# Altium footprint library ELSMTD8h10.5.PcbLib: 1 footprints
Each footprint in its own frame and in the unit in brackets; x right, y up, seen from the top. Pads: shape width x height; smd on the part's side, far side on the other; paste and mask are expansions set on the pad; w line width, h text height; cw(c..) or ccw(c..) is an arc to the next point about the centre after c.
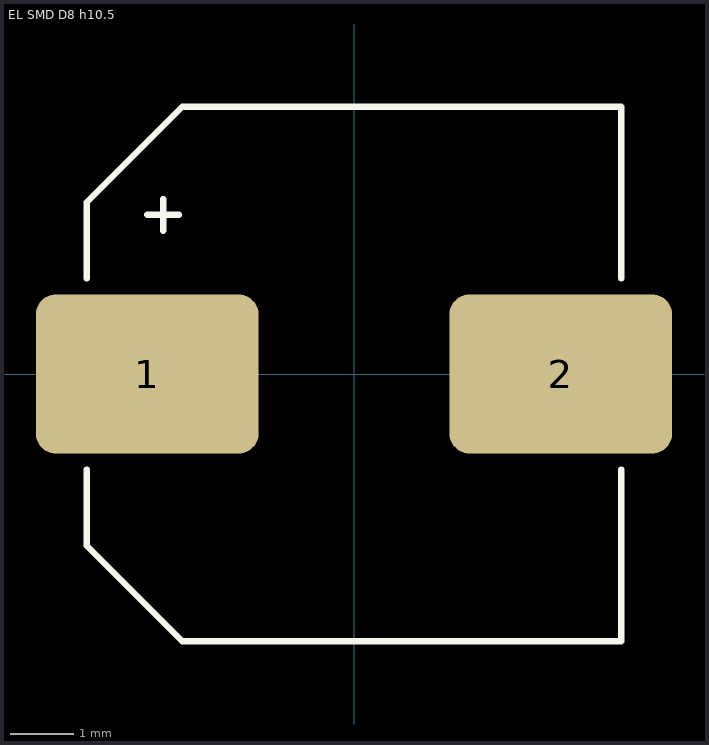
[diagram p0: the footprint, top view; thin cyan lines are the x and y axes]

## EL SMD D8 h10.5 [mm]
height 10.5
pads (2):
  rrect25% 3.5x2.5 smd mask+0.102: 1(-3.25,0) 2(3.25,0)
Top Overlay:
  lines w0.1: -4.2,-1.5 -4.2,-2.7 -2.7,-4.2 4.2,-4.2 4.2,-1.5 ; -4.2,1.5 -4.2,2.7 -2.7,4.2 4.2,4.2 4.2,1.5 ; -3.25,2.5 -2.75,2.5 ; -3,2.25 -3,2.75
3D body "Cap EL SMD D8 h10.5.STEP": height 10.8, standoff 0, extent -4.5,-4.15 4.5,4.15